# Altium schematic symbol library LINUX.SchLib: 132 symbols (part 4 of 4)
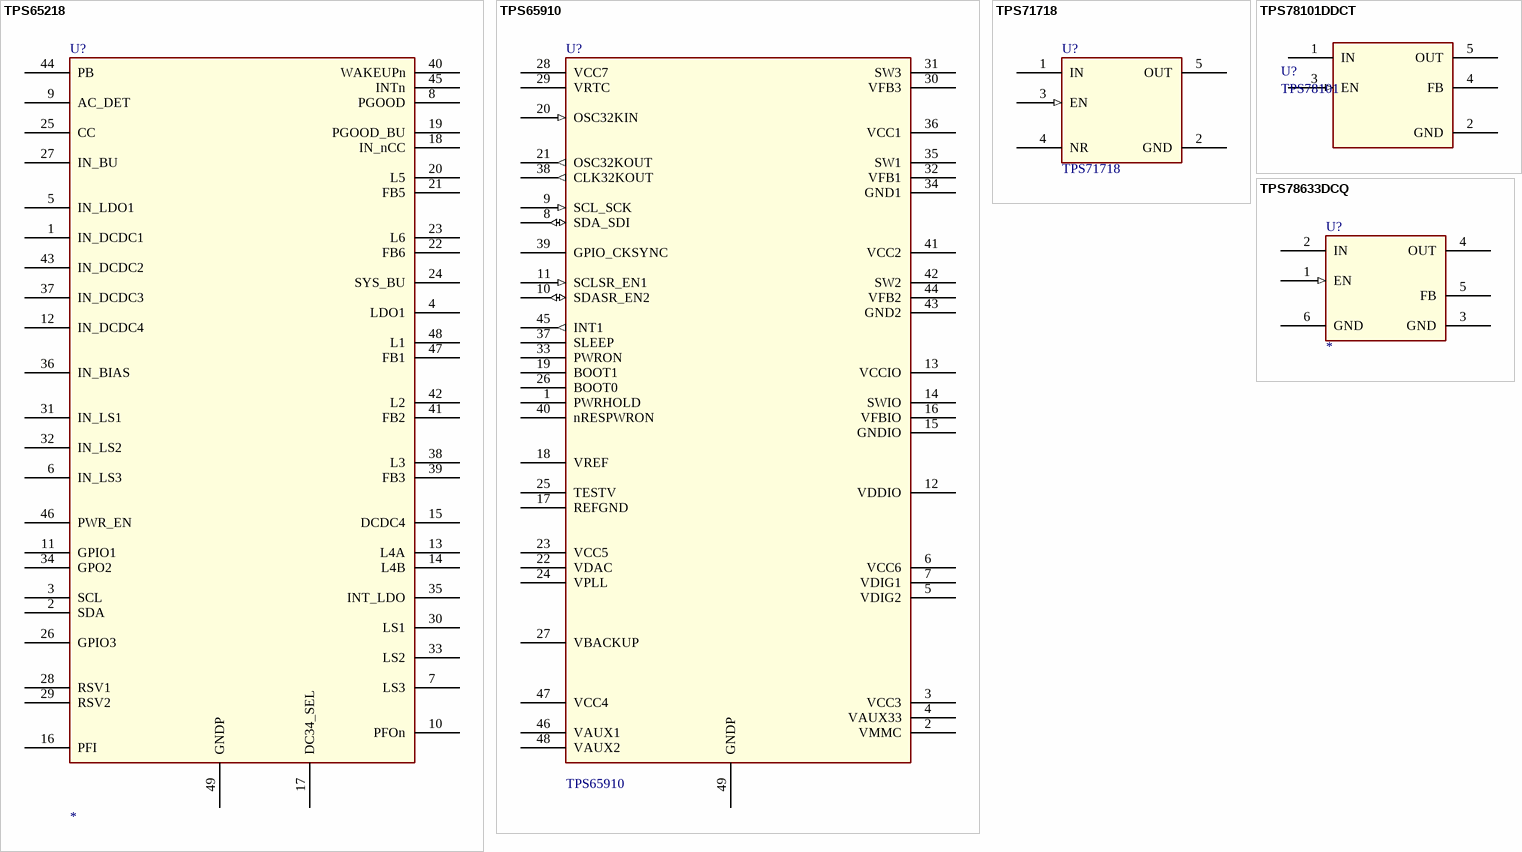
[diagram p10: symbols TPS65218 to TPS78633DCQ]

## TPS65218
designator U?
PartName: TPS65218; Mfr: TI; MfrNum: TPS65218xxx; TIIntPartnumber: 1A0359; DescriptiveText: Power Management IC for AM437x SOC Mult Outputs; Vendor: Digikey; Cost100: 0.xx; Cost10K: 0.xxx
footprint HTQFP_48pin (HTQFP_48PIN)
pins: 1 IN_DCDC1, 2 SDA, 3 SCL, 4 LDO1, 5 IN_LDO1, 6 IN_LS3, 7 LS3, 8 PGOOD, 9 AC_DET, 10 PFOn, 11 GPIO1, 12 IN_DCDC4, 13 L4A, 14 L4B, 15 DCDC4, 16 PFI, 17 DC34_SEL, 18 IN_nCC, 19 PGOOD_BU, 20 L5, 21 FB5, 22 FB6, 23 L6, 24 SYS_BU, 25 CC, 26 GPIO3, 27 IN_BU, 28 RSV1, 29 RSV2, 30 LS1, 31 IN_LS1, 32 IN_LS2, 33 LS2, 34 GPO2, 35 INT_LDO, 36 IN_BIAS, 37 IN_DCDC3, 38 L3, 39 FB3, 40 WAKEUPn, 41 FB2, 42 L2, 43 IN_DCDC2, 44 PB, 45 INTn, 46 PWR_EN, 47 FB1, 48 L1, 49 GNDP (power)

## TPS65910
designator U?
Integrated Power Management Unit; Mfr: TI; MfrNum: TPS65910AA1RSL; TIIntPartnumber: 1A0243; Vendor: Digikey; Cost100: 1.99; Cost10K: 1.00; DescriptiveText: Integrated Power Management Unit; PartName: TPS65910; Descriptive_Text: Integrated Power Management Unit; Supplier 1: Digi-Key; Supplier Part Number 1: 296-28822-ND
footprint VQFN-48 (U_48_RSL)
pins: 1 PWRHOLD, 2 VMMC (power), 3 VCC3 (power), 4 VAUX33 (power), 5 VDIG2, 6 VCC6, 7 VDIG1, 8 SDA_SDI (io), 9 SCL_SCK (in), 10 SDASR_EN2 (io), 11 SCLSR_EN1 (in), 12 VDDIO, 13 VCCIO (power), 14 SWIO (power), 15 GNDIO (power), 16 VFBIO, 17 REFGND (power), 18 VREF, 19 BOOT1, 20 OSC32KIN (in), 21 OSC32KOUT (out), 22 VDAC (power), 23 VCC5 (power), 24 VPLL (power), 25 TESTV, 26 BOOT0, 27 VBACKUP (power), 28 VCC7, 29 VRTC, 30 VFB3, 31 SW3 (power), 32 VFB1, 33 PWRON, 34 GND1 (power), 35 SW1 (power), 36 VCC1, 37 SLEEP, 38 CLK32KOUT (out), 39 GPIO_CKSYNC, 40 nRESPWRON, 41 VCC2, 42 SW2 (power), 43 GND2 (power), 44 VFB2, 45 INT1 (out), 46 VAUX1 (power), 47 VCC4 (power), 48 VAUX2 (power), 49 GNDP (power)

## TPS71718
designator U?
Low Dropout 1.8V 150mA Linear Regulator; Mfr: TI; MfrNum: TPS71718DCK; TIIntPartnumber: 1A0262; Manufacturer: Texas Instruments; Manufacturer Part Number: TPS71718DCKR; Vendor: Digikey; Cost100: 1.21; Cost10K: 0.31; Regulator Topology: Positive Fixed; Number of Regulators: 1; Voltage - Input: 2.5 V ~ 6.5 V; Current - Limit (Min): 200mA; DescriptiveText: Low Dropout 1.8V 150mA Linear Regulator; PartName: TPS71718; Descriptive_Text: Low Dropout 1.8V 150mA Linear Regulator; Supplier 1: Digi-Key; RoHS: RoHS Compliant; Category: Integrated Circuits (ICs); Stock 1: 2690; Pricing 1: 1=1.17, 10=1.034, 25=0.9332, 100=0.8165, 250=0.71604, 500=0.63504, 750=0.55404, 1000=0.405 (USD); Packaging: Cut Tape (CT); Voltage - Output: 1.8V; Current - Output: 150mA; Voltage - Dropout (Typical): -; Operating Temperature: -40°C ~ 125°C; Mounting Type: Surface Mount; Package / Case: 5-TSSOP, SC-70-5, SOT-353; Supplier Device Package: SC-70-5; ComponentLink1URL: http://www.ti.com/lit/ds/symlink/tps717.pdf; ComponentLink1Description: http://www.ti.com/lit/ds/symlink/tps717.pdf; Supplier Part Number 1: 296-19646-1-ND
footprint smdsc70-5 (SMDSC70-5)
pins: 1 IN, 2 GND (power), 3 EN (in), 4 NR, 5 OUT

## TPS78101DDCT
designator U?, comment TPS78101
LDO Voltage Regulators Sgl Output LDO 150mA Adj.; Manufacturer: Texas Instruments; Manufacturer Part Number: TPS78101DDCT; Input Voltage MAX: 5.5 V; Number of Outputs: 1 Output; Output Type: Adjustable; Output Voltage: 1.22 V to 5.25 V; Dropout Voltage - Max: 250 mV; Voltage Regulation Accuracy: 2 %; Development Kit: TPS78101EVM-339; Input Voltage MIN: + 2.2 V; Line Regulation: 1 %; Maximum Power Dissipation: 0.5 W; Reference Voltage: 1.216 V; Supplier 1: Mouser; RoHS: RoHS Compliant; Category: LDO Voltage Regulators; Stock 1: 1082; Pricing 1: 1=1.63, 10=1.45, 25=1.30, 50=1.21, 100=1.14, 250=0.974, 500=0.861, 750=0.751, 1000=0.566 (AUD); Output Current: 150 mA; Package / Case: SOT-23-5; Packaging: Reel; Series: TPS78101; Brand: Texas Instruments; Mounting Style: SMD/SMT; Load Regulation: 2 %; Maximum Operating Temperature: + 125 C; Minimum Operating Temperature: - 40 C; Product Category: Regulators - Low Dropout (LDO); Standard Pack Qty: 250; RoHS - Mouser: Y; Minimum Order Quantity: 1; Reeling: True; ComponentLink1URL: http://www.mouser.com/ds/2/405/sbvs102b-203770.pdf; ComponentLink1Description: http://www.mouser.com/ds/2/405/sbvs102b-203770.pdf; Supplier Part Number 1: 595-TPS78101DDCT
footprint smdsc70-5 (SMDSC70-5)
pins: 1 IN, 2 GND (power), 3 EN (in), 4 FB, 5 OUT

## TPS78633DCQ
designator U?
TIIntPartnumber: 1A0094; MfrNum: TPS78633DCQ; Mfr: TI; PartName: TPS78633; DescriptiveText: Linear Power Regulator 3.3V 1.5A; Cost10K: 1.01; Cost100: 1.25; Vendor: Arrow; Supplier 1: Digi-Key; Supplier Part Number 1: 296-13760-1-ND
footprint SOT223_6PIN
pins: 1 EN (in), 2 IN, 3 GND (power), 4 OUT (power), 5 FB, 6 GND (power)